# Altium schematic symbol library Schematic Components.SCHLIB: 5 symbols
Pins are listed as number, name and electrical type; pins without a type are passive.

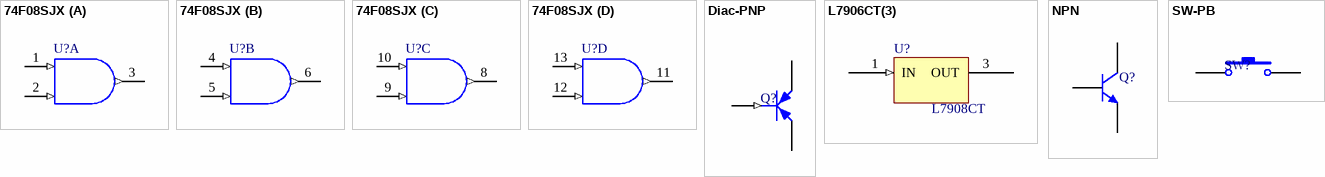
[diagram p0: symbols 74F08SJX to SW-PB]

## 74F08SJX
designator U?
Quad 2-Input AND Gate
footprint DIP14
signal-integrity model 74S08SJX (74S08SJX SI)
simulation model NSC_74F08 (SIM)
pins on every part: 7 GND (power) hidden to GND, 14 VCC (power) hidden to VCC
part A pins: 1 A (in), 2 B (in), 3 O (out)
part B pins: 4 A (in), 5 B (in), 6 O (out)
part C pins: 8 O (out), 9 B (in), 10 A (in)
part D pins: 11 O (out), 12 B (in), 13 A (in)
2 alternate drawings of the same symbol

## Diac-PNP
designator Q?
DIAC; Manufacturer: Generic Components; Class: Discrete; Published: 1999; SubClass: DIAC
footprint SOT89 (TO-243 AA)
pins: 1 B (in), 2 E, 3 C

## L7906CT(3)
designator U?, comment L7908CT
Negative Voltage Regulators
footprint TO-3
pins: 1 IN (in), 2 GND (power) hidden to GND, 3 OUT (power)

## NPN
designator Q?
NPN Bipolar Transistor
footprint BCY-W3
signal-integrity model NPN
simulation model NPN (NPN BJT)
pins: 1 C, 2 B, 3 E

## SW-PB
designator SW?
SW-PB
footprint LCR1_KC1
pins: 1, 2